# Altium footprint library mbed-enablement-platform.PCBLIB: 51 footprints (part 2 of 4)
Each footprint in its own frame and in the unit in brackets; x right, y up, seen from the top. Pads: shape width x height; smd on the part's side, far side on the other; paste and mask are expansions set on the pad; w line width, h text height; cw(c..) or ccw(c..) is an arc to the next point about the centre after c.
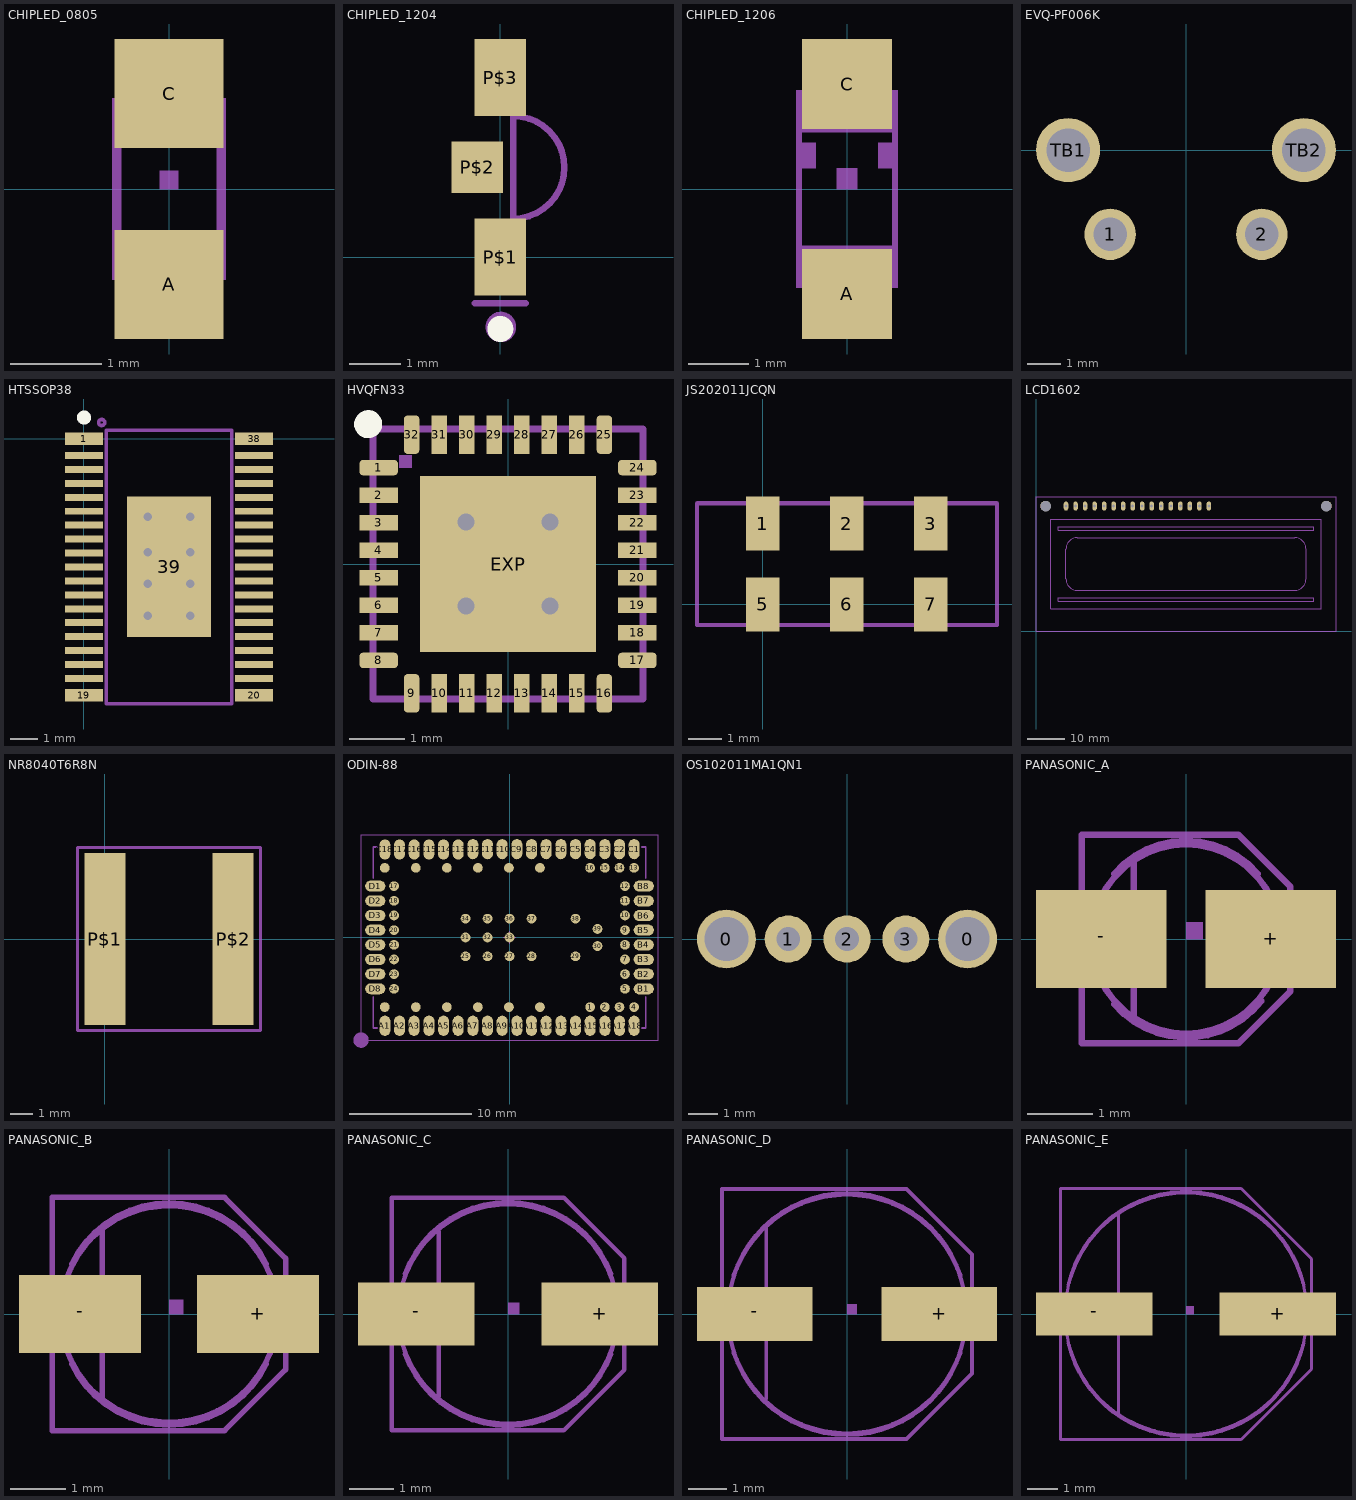
[diagram p1: the footprints below, top view; thin cyan lines are the x and y axes]

## CHIPLED_0805 [mm]
pads (2):
  rect 1.2x1.2 smd: A(0,-1.05) C(0,1.05)
Mechanical 2:
  region: -0.1,0 -0.1,0.2 0.1,0.2 0.1,0
Mechanical 8:
  circle w0.102: c-0.45,0.85 r0.103
  region: 0.3,0.5 0.3,1 0.625,1 0.625,0.5
  region: -0.325,0.5 -0.325,0.75 -0.175,0.75 -0.175,0.5
  region: 0.175,0.5 0.175,0.75 0.325,0.75 0.325,0.5
  region: -0.2,0.5 -0.2,0.675 0.2,0.675 0.2,0.5
  region: 0.3,-1 0.3,-0.5 0.625,-0.5 0.625,-1
  region: -0.625,-1 -0.625,-0.5 -0.3,-0.5 -0.3,-1
  region: 0.175,-0.75 0.175,-0.5 0.325,-0.5 0.325,-0.75
  region: -0.325,-0.75 -0.325,-0.5 -0.175,-0.5 -0.175,-0.75
  region: -0.2,-0.675 -0.2,-0.5 0.2,-0.5 0.2,-0.675
  region: -0.6,0.5 -0.6,0.8 -0.3,0.8 -0.3,0.5
  region: -0.625,0.925 -0.625,1 -0.3,1 -0.3,0.925
  lines w0.102: -0.575,-0.5 -0.575,0.925 ; -0.35,-0.925 cw(c0,-0.979) 0.35,-0.925 ; -0.35,0.925 ccw(c0,0.979) 0.35,0.925 ; 0.575,-0.525 0.575,0.525

## CHIPLED_1204 [mm]
pads (3):
  rect 1x1.5 smd: P$1(0,0) P$3(0,3.5)
  rect 1x1 smd: P$2(-0.45,1.75)
Top Overlay:
  circle w0.254: c0,-1.397 r0.127
Mechanical 2:
  circle w0.127: c0.013,-1.359 r0.234
  lines w0.127: -0.5,-0.9 0.5,-0.9 ; 0.25,0.75 ccw(c0.25,1.75) 1.25,1.75 ccw(c0.25,1.75) 0.25,2.75 0.25,0.75
3D body "STEP-WL-SMSW-1204-rev1.stp": height 1, standoff 0, extent -0.185,0.2 1.3,3.4

## CHIPLED_1206 [mm]
pads (2):
  rect 1.5x1.5 smd: A(0,-1.75) C(0,1.75)
Mechanical 2:
  region: -0.85,0.35 -0.85,0.775 -0.525,0.775 -0.525,0.35
  region: 0.525,0.35 0.525,0.775 0.85,0.775 0.85,0.35
  region: -0.175,0 -0.175,0.35 0.175,0.35 0.175,0
Mechanical 8:
  circle w0.102: c-0.55,1.425 r0.1
  region: -0.85,1.525 -0.85,1.65 -0.35,1.65 -0.35,1.525
  region: -0.85,1.225 -0.85,1.55 -0.625,1.55 -0.625,1.225
  region: -0.45,1.225 -0.45,1.45 -0.325,1.45 -0.325,1.225
  region: -0.65,1.225 -0.65,1.35 -0.225,1.35 -0.225,1.225
  region: 0.35,1.3 0.35,1.65 0.85,1.65 0.85,1.3
  region: 0.25,1.225 0.25,1.35 0.85,1.35 0.85,1.225
  region: -0.85,0.95 -0.85,1.25 0.85,1.25 0.85,0.95
  region: -0.85,-1.65 -0.85,-0.95 0.85,-0.95 0.85,-1.65
  lines w0.102: -0.8,-0.95 -0.8,0.95 ; -0.4,1.6 ccw(c0,1.626) 0.4,1.6 ; 0.8,-0.95 0.8,0.95

## EVQ-PF006K [mil]
pads (4):
  round 60 hole 39: 1(-88.58,-98.43) 2(88.58,-98.43)
  round 75 hole 51: TB1(-137.8,0) TB2(137.8,0)
3D body "EVQPF006K.STEP": height 293.86, standoff -135.28, extent -163.97,-330.7 173.9,57.09

## HTSSOP38 [mm]
pads (39):
  rect 1.35x0.45 smd: 1(0,0) 19(0,-9.2) 20(6.1,-9.2) 38(6.1,0)
  rect 1.35x0.25 smd: 2(0,-0.6) 3(0,-1.1) 4(0,-1.6) 5(0,-2.1) 6(0,-2.6) 7(0,-3.1) 8(0,-3.6) 9(0,-4.1) 10(0,-4.6) 11(0,-5.1) 12(0,-5.6) 13(0,-6.1) 14(0,-6.6) 15(0,-7.1) 16(0,-7.6) 17(0,-8.1) 18(0,-8.6) 21(6.1,-8.6) 22(6.1,-8.1) 23(6.1,-7.6) 24(6.1,-7.1) 25(6.1,-6.6) 26(6.1,-6.1) 27(6.1,-5.6) 28(6.1,-5.1) 29(6.1,-4.6) 30(6.1,-4.1) 31(6.1,-3.6) 32(6.1,-3.1) 33(6.1,-2.6) 34(6.1,-2.1) 35(6.1,-1.6) 36(6.1,-1.1) 37(6.1,-0.6)
  rect 3x5.04 smd: 39(3.05,-4.6)
via 2.286,-6.35 diameter 0.61 hole 0.305
via 3.81,-6.35 diameter 0.61 hole 0.305
via 3.81,-5.207 diameter 0.61 hole 0.305
via 2.286,-5.207 diameter 0.61 hole 0.305
via 2.286,-4.064 diameter 0.61 hole 0.305
via 3.81,-4.064 diameter 0.61 hole 0.305
via 3.81,-2.794 diameter 0.61 hole 0.305
via 2.286,-2.794 diameter 0.61 hole 0.305
Top Overlay:
  circle w0.254: c0,0.762 r0.127
Mechanical 2:
  circle w0.127: c0.635,0.584 r0.109
  lines w0.127: 0.8,-9.5 5.3,-9.5 5.3,0.3 0.8,0.3
Mechanical 3:
  lines w0.127: 0.8,-9.5 0.8,0.3

## HVQFN33 [mm]
pads (33):
  rrect50% 0.7x0.28 smd mask-0.35: 1(-2.35,1.75) 8(-2.35,-1.75) 17(2.35,-1.75) 24(2.35,1.75)
  rect 0.7x0.28 smd mask-0.35: 2(-2.35,1.25) 3(-2.35,0.75) 4(-2.35,0.25) 5(-2.35,-0.25) 6(-2.35,-0.75) 7(-2.35,-1.25) 18(2.35,-1.25) 19(2.35,-0.75) 20(2.35,-0.25) 21(2.35,0.25) 22(2.35,0.75) 23(2.35,1.25)
  rrect50% 0.28x0.7 smd mask-0.35: 9(-1.75,-2.35) 16(1.75,-2.35) 25(1.75,2.35) 32(-1.75,2.35)
  rect 0.28x0.7 smd mask-0.35: 10(-1.25,-2.35) 11(-0.75,-2.35) 12(-0.25,-2.35) 13(0.25,-2.35) 14(0.75,-2.35) 26(1.25,2.35) 27(0.75,2.35) 28(0.25,2.35) 29(-0.25,2.35) 30(-0.75,2.35) 31(-1.25,2.35)
  rect 0.28x0.7 smd paste-0.35 mask-0.35: 15(1.25,-2.35)
  rect 3.2x3.2 smd: EXP(0,0)
via -0.762,0.762 diameter 0.61 hole 0.305
via 0.762,0.762 diameter 0.61 hole 0.305
via 0.762,-0.762 diameter 0.61 hole 0.305
via -0.762,-0.762 diameter 0.61 hole 0.305
Top Overlay:
  circle w0.254: c-2.54,2.54 r0.127
Top Solder:
  region: -1.925,2.725 -1.575,2.725 -1.575,1.975 -1.925,1.975
  region: -1.425,2.725 -1.075,2.725 -1.075,1.975 -1.425,1.975
  region: -0.925,2.725 -0.575,2.725 -0.575,1.975 -0.925,1.975
  region: -0.425,2.725 -0.075,2.725 -0.075,1.975 -0.425,1.975
  region: 0.075,2.725 0.425,2.725 0.425,1.975 0.075,1.975
  region: 0.575,2.725 0.925,2.725 0.925,1.975 0.575,1.975
  region: 1.075,2.725 1.425,2.725 1.425,1.975 1.075,1.975
  region: 1.575,2.725 1.925,2.725 1.925,1.975 1.575,1.975
  region: 2.725,1.925 2.725,1.575 1.975,1.575 1.975,1.925
  region: 2.725,1.425 2.725,1.075 1.975,1.075 1.975,1.425
  region: 2.725,0.925 2.725,0.575 1.975,0.575 1.975,0.925
  region: 2.725,0.425 2.725,0.075 1.975,0.075 1.975,0.425
  region: 2.725,-0.075 2.725,-0.425 1.975,-0.425 1.975,-0.075
  region: 2.725,-0.575 2.725,-0.925 1.975,-0.925 1.975,-0.575
  region: 2.725,-1.075 2.725,-1.425 1.975,-1.425 1.975,-1.075
  region: 2.725,-1.575 2.725,-1.925 1.975,-1.925 1.975,-1.575
  region: 1.925,-2.725 1.575,-2.725 1.575,-1.975 1.925,-1.975
  region: 1.425,-2.725 1.075,-2.725 1.075,-1.975 1.425,-1.975
  region: 0.925,-2.725 0.575,-2.725 0.575,-1.975 0.925,-1.975
  region: 0.425,-2.725 0.075,-2.725 0.075,-1.975 0.425,-1.975
  region: -0.075,-2.725 -0.425,-2.725 -0.425,-1.975 -0.075,-1.975
  region: -0.575,-2.725 -0.925,-2.725 -0.925,-1.975 -0.575,-1.975
  region: -1.075,-2.725 -1.425,-2.725 -1.425,-1.975 -1.075,-1.975
  region: -1.575,-2.725 -1.925,-2.725 -1.925,-1.975 -1.575,-1.975
  region: -2.725,-1.925 -2.725,-1.575 -1.975,-1.575 -1.975,-1.925
  region: -2.725,-1.425 -2.725,-1.075 -1.975,-1.075 -1.975,-1.425
  region: -2.725,-0.925 -2.725,-0.575 -1.975,-0.575 -1.975,-0.925
  region: -2.725,-0.425 -2.725,-0.075 -1.975,-0.075 -1.975,-0.425
  region: -2.725,0.075 -2.725,0.425 -1.975,0.425 -1.975,0.075
  region: -2.725,0.575 -2.725,0.925 -1.975,0.925 -1.975,0.575
  region: -2.725,1.075 -2.725,1.425 -1.975,1.425 -1.975,1.075
  region: -2.725,1.575 -2.725,1.925 -1.975,1.925 -1.975,1.575
  region: -1.75,-1.75 -1.75,1.75 1.75,1.75 1.75,-1.75
Mechanical 2:
  region: -1.975,1.75 -1.975,1.975 -1.75,1.975 -1.75,1.75
  lines w0.127: -2.45,-2 -2.45,-2.45 -2,-2.45 ; -2.45,2 -2.45,2.45 -2,2.45 ; 2,-2.45 2.45,-2.45 2.45,-2 ; 2,2.45 2.45,2.45 2.45,2
Mechanical 8:
  lines w0.127: -2.45,-2 -2.45,2 ; -2,-2.45 2,-2.45 ; -2,2.45 2,2.45 ; 2.45,-2 2.45,2

## JS202011JCQN [mm]
pads (6):
  rect 1x1.6 smd: 1(0,2.4) 2(2.5,2.4) 3(5,2.4) 5(0,0) 6(2.5,0) 7(5,0)
Mechanical 2:
  lines w0.127: -1.956,-0.61 -1.956,2.99 ; -1.949,-0.616 6.956,-0.616 ; -1.949,3.004 6.956,3.004 ; 6.966,-0.603 6.966,2.997

## LCD1602 [mil]
pads (18):
  oval 47.25x94.5 hole 31.5: 1(314.96,1317.32) 2(414.96,1317.32) 3(514.96,1317.32) 4(614.96,1317.32) 5(714.96,1317.32) 6(814.96,1317.32) 7(914.96,1317.32) 8(1014.96,1317.32) 9(1114.96,1317.32) 10(1214.96,1317.32) 11(1314.96,1317.32) 12(1414.96,1317.32) 13(1514.96,1317.32) 14(1614.96,1317.32) 15(1714.96,1317.32) 16(1814.96,1317.32)
  round 110.24 hole 110.24: ""(100,1317.32) ""(3049.61,1317.32)
Mechanical 2:
  lines w5: 0,0 0,1417.32 3149.61,1417.32 3149.61,0 0,0 ; 157.48,236.22 157.48,1181.1 2992.13,1181.1 2992.13,236.22 157.48,236.22 ; 236.22,314.96 236.22,354.33 2913.39,354.33 2913.39,314.96 236.22,314.96 ; 236.22,1062.99 236.22,1102.36 2913.39,1102.36 2913.39,1062.99 236.22,1062.99 ; 314.96,551.18 ccw(c433.07,551.18) 433.07,433.07 2716.54,433.07 ccw(c2716.54,551.18) 2834.65,551.18 2834.65,866.14 ccw(c2716.54,866.14) 2716.54,984.25 433.07,984.25 ccw(c433.07,866.14) 314.96,866.14 314.96,551.18
3D body "LCD.STEP": height 485.83, standoff -234.65, extent -4.8,6.34 3144.81,1423.67

## NR8040T6R8N [mm]
pads (2):
  rect 1.8x7.5 smd: P$1(0,0) P$2(5.6,0)
Mechanical 2:
  lines w0.127: -1.2,-4 6.8,-4 6.8,4 -1.2,4 -1.2,-4
3D body: height 4, standoff 0, extent -1.2,-4 6.8,4

## ODIN-88 [mil]
pads (103):
  rrect100% 31.5x31.5 smd: 1(259.84,-224.41) 2(307.09,-224.41) 3(354.33,-224.41) 4(401.57,-224.41) 5(372.05,-165.35) 6(372.05,-118.11) 7(372.05,-70.87) 8(372.05,-23.62) 9(372.05,23.62) 10(372.05,70.87) 11(372.05,118.11) 12(372.05,165.35) 13(401.57,224.41) 14(354.33,224.41) 15(307.09,224.41) 16(259.84,224.41) 17(-372.05,165.35) 18(-372.05,118.11) 19(-372.05,70.87) 20(-372.05,23.62) 21(-372.05,-23.62) 22(-372.05,-70.87) 23(-372.05,-118.11) 24(-372.05,-165.35) 25(-141.73,-60.63) 26(-70.87,-60.63) 27(0,-60.63) 28(70.87,-60.63) 29(212.6,-60.63) 30(283.46,-27.56) 31(-141.73,0) 32(-70.87,0) 33(0,0) 34(-141.73,60.63) 35(-70.87,60.63) 36(0,60.63) 37(70.87,60.63) 38(212.6,60.63) 39(283.46,27.56) TP1(98.03,-224.41) TP2(98.03,224.41) TP3(-1.97,-224.41) TP4(-1.97,224.41) TP5(-101.97,-224.41) TP6(-101.97,224.41) TP7(-201.97,-224.41) TP8(-201.97,224.41) TP9(-301.97,-224.41) TP10(-301.97,224.41) TP11(-401.97,-224.41) TP12(-401.97,224.41)
  rrect100% 35.43x65 smd: A1(-401.43,-284.45) A2(-354.43,-284.45) A3(-307.43,-284.45) A4(-259.43,-284.45) A5(-212.43,-284.45) A6(-165.43,-284.45) A7(-118.11,-284.45) A8(-70.87,-284.45) A9(-23.62,-284.45) A10(23.62,-284.45) A11(70.87,-284.45) A12(118.11,-284.45) A13(165.35,-284.45) A14(212.6,-284.45) A15(259.84,-284.45) A16(307.09,-284.45) A17(354.57,-284.45) A18(401.57,-284.45) C1(401.57,284.45) C2(354.33,284.45) C3(307.09,284.45) C4(259.84,284.45) C5(212.6,284.45) C6(165.35,284.45) C7(118.11,284.45) C8(70.87,284.45) C9(23.62,284.45) C10(-23.62,284.45) C11(-70.87,284.45) C12(-118.11,284.45) C13(-165.35,283.45) C14(-212.6,283.45) C15(-259.84,283.45) C16(-307.09,283.45) C17(-354.33,283.45) C18(-401.57,283.45)
  rrect100% 65x35.43 smd: B1(432.45,-165.43) B2(432.45,-118.11) B3(432.45,-70.87) B4(432.45,-23.62) B5(432.45,23.62) B6(432.45,70.62) B7(432.45,118.11) B8(432.45,165.35) D1(-432.55,165.35) D2(-432.55,118.11) D3(-432.55,70.87) D4(-432.55,23.62) D5(-432.55,-23.62) D6(-432.55,-70.87) D7(-432.55,-118.11) D8(-432.55,-165.35)
Top Solder:
  lines w7.87: -458.66,-251.97 -458.66,-311.02 -438.98,-311.02 ; 438.98,311.02 458.66,311.02 458.66,251.97
Mechanical 2:
  circle w29.53: c-478.35,-330.71 r9.84
  lines w5.91: -438.98,-190.94 -438.98,-291.34 -427.17,-291.34 ; -438.98,190.94 -438.98,291.34 -427.17,291.34 ; 427.17,-291.34 438.98,-291.34 438.98,-190.94 ; 427.17,291.34 438.98,291.34 438.98,190.94
Mechanical 4:
  lines w1.97: -19.69,0 19.69,0 ; 0,-19.69 0,19.69
Mechanical 34:
  lines w3.94: -478.35,-330.71 478.35,-330.71 478.35,330.71 -478.35,330.71 -478.35,-330.71
3D body "ODIN-W262.STEP": height 176.39, standoff -0.41, extent -440,-291.34 437.95,291.34

## OS102011MA1QN1 [mm]
pads (5):
  round 2 hole 1.5: 0(-4.1,0) 0(4.1,0)
  round 1.6 hole 0.8: 1(-2,0) 2(0,0) 3(2,0)
3D body "os102011ma1qn1_093011.stp": height 4.7, standoff -2.8, extent -4.3,-6.2 4.3,2.2

## PANASONIC_A [mm]
pads (2):
  rect 2x1.5 smd: +(1.3,0) -(-1.3,0)
Mechanical 2:
  lines w0.102: -1.6,-0.95 -1.6,-1.6 0.8,-1.6 1.5,-0.9 ; -1.6,0.95 -1.6,1.6 0.8,1.6 1.5,0.9 ; -1.1,1.001 cw(c0,0.052) 1.1,1.001 ; -1.099,-1.001 ccw(c0.006,-0.053) 1.151,-0.951
Mechanical 8:
  circle w0.102: c0,0 r1.45
  region: 0,0 0.254,0 0.254,0.254 0,0.254
  region: 1.45,-0.3 1.45,0.3 1.8,0.3 1.8,-0.3
  region: -1.8,-0.3 -1.8,0.3 -1.45,0.3 -1.45,-0.3
  lines w0.102: -0.8,-1.2 -0.8,1.2 ; -1.6,-1.6 -1.6,1.6 0.8,1.6 1.6,0.8 1.6,-0.8 0.8,-1.6 -1.6,-1.6

## PANASONIC_B [mm]
pads (2):
  rect 2.2x1.4 smd: +(1.6,0) -(-1.6,0)
Mechanical 2:
  lines w0.102: -2.1,-0.85 -2.1,-2.1 1,-2.1 2.1,-1 ; -2.1,0.85 -2.1,2.1 1,2.1 2.1,1 ; -1.75,-0.901 ccw(c0,-0.053) 1.75,-0.901 ; -1.75,0.901 cw(c0,0.053) 1.75,0.901
Mechanical 8:
  circle w0.102: c0,0 r1.95
  region: -2.3,-0.35 -2.3,0.35 -1.85,0.35 -1.85,-0.35
  region: 1.9,-0.35 1.9,0.35 2.3,0.35 2.3,-0.35
  region: 0,0 0.254,0 0.254,0.254 0,0.254
  lines w0.102: -1.2,-1.5 -1.2,1.5 ; -2.1,-2.1 1,-2.1 2.1,-1 2.1,1 1,2.1 -2.1,2.1 -2.1,-2.1

## PANASONIC_C [mm]
pads (2):
  rect 2.6x1.4 smd: +(2.05,0) -(-2.05,0)
Mechanical 2:
  lines w0.102: -2.6,-0.95 -2.6,-2.6 1.25,-2.6 2.6,-1.25 2.6,-0.95 ; -2.6,0.95 -2.6,2.6 1.25,2.6 2.6,1.25 2.6,0.95 ; -2.3,-0.901 ccw(c0,-0.05) 2.3,-0.901 ; -2.3,0.901 cw(c0,0.05) 2.3,0.901
Mechanical 8:
  circle w0.102: c0,0 r2.45
  region: 0,0 0.254,0 0.254,0.254 0,0.254
  region: 2.4,-0.35 2.4,0.35 2.95,0.35 2.95,-0.35
  region: -2.95,-0.35 -2.95,0.35 -2.4,0.35 -2.4,-0.35
  lines w0.102: -1.55,-1.85 -1.55,1.85 ; -2.6,-2.6 -2.6,2.6 1.25,2.6 2.6,1.25 2.6,-1.25 1.25,-2.6 -2.6,-2.6

## PANASONIC_D [mm]
pads (2):
  rect 3x1.4 smd: +(2.4,0) -(-2.4,0)
Mechanical 2:
  lines w0.102: -3.25,-0.95 -3.25,-3.25 1.55,-3.25 3.25,-1.55 3.25,-0.95 ; -3.25,0.95 -3.25,3.25 1.55,3.25 3.25,1.55 3.25,0.95 ; -2.95,-1.001 ccw(c0,-0.048) 2.95,-1.001 ; -2.95,1.001 cw(c0,0.048) 2.95,1.001
Mechanical 8:
  circle w0.102: c0,0 r3.1
  region: 0,0 0.254,0 0.254,0.254 0,0.254
  region: 3.05,-0.35 3.05,0.35 3.65,0.35 3.65,-0.35
  region: -3.65,-0.35 -3.65,0.35 -3.05,0.35 -3.05,-0.35
  lines w0.102: -2.1,-2.2 -2.1,2.25 ; -3.25,-3.25 -3.25,3.25 1.55,3.25 3.25,1.55 3.25,-1.55 1.55,-3.25 -3.25,-3.25

## PANASONIC_E [mm]
pads (2):
  rect 3.8x1.4 smd: +(3,0) -(-3,0)
Mechanical 2:
  lines w0.102: -4.1,-0.9 -4.1,-4.1 1.8,-4.1 4.1,-1.8 4.1,-0.9 ; -4.1,0.9 -4.1,4.1 1.8,4.1 4.1,1.8 4.1,0.9 ; -3.85,-0.951 ccw(c0,-0.057) 3.85,-0.951 ; -3.85,0.951 cw(c0,0.057) 3.85,0.951
Mechanical 8:
  circle w0.102: c0,0 r3.95
  region: 0,0 0.254,0 0.254,0.254 0,0.254
  region: 3.8,-0.35 3.8,0.35 4.5,0.35 4.5,-0.35
  region: -4.5,-0.35 -4.5,0.35 -3.8,0.35 -3.8,-0.35
  lines w0.102: -2.2,-3.25 -2.2,3.25 ; -4.1,-4.1 -4.1,4.1 1.8,4.1 4.1,1.8 4.1,-1.8 1.8,-4.1 -4.1,-4.1